# EAGLE library part BERG_FEM_8 (library dragCustom)
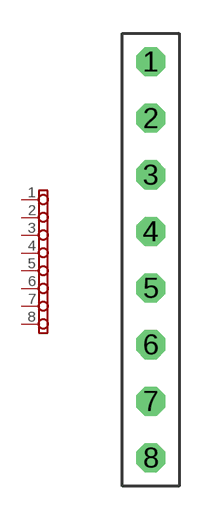
[diagram p2: symbol with the pads of BERG_FEM_8; footprint BERG_FEM_8]

Designator prefix -

## BERG_FEM_8  [BERG_FEM_8]
1  1
2  2
3  3
4  4
5  5
6  6
7  7
8  8

## Footprint BERG_FEM_8 (pad centres in mm)
drill 0.8 octagon: 1 0,7.62; 2 0,5.08; 3 0,2.54; 4 0,0; 5 0,-2.54; 6 0,-5.08; 7 0,-7.62; 8 0,-10.16